# EAGLE library part M48T35 (library df4iah_memory)
5V, 256 Kbit (32 Kb x8) TIMEKEEPER® SRAM Source: http://www.st.com/stonline/books/pdf/docs/2611.pdf#search=%22M48T35%22
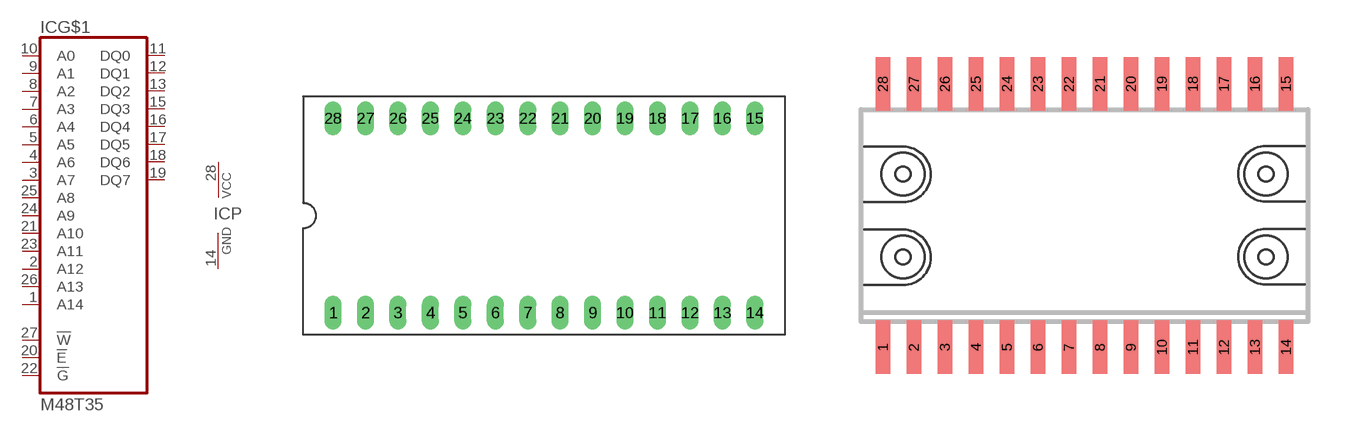
[diagram p65: symbol with the pads of PCDIP28-CAPHAT; footprints PCDIP28-CAPHAT, SOH28-SNAPHAT]

Designator prefix IC; gates G$1=M48T35 P=PWRN

## M48T35PC  [PCDIP28-CAPHAT]
1  G$1:A14  in
2  G$1:A12  in
3  G$1:A7  in
4  G$1:A6  in
5  G$1:A5  in
6  G$1:A4  in
7  G$1:A3  in
8  G$1:A2  in
9  G$1:A1  in
10  G$1:A0  in
11  G$1:DQ0
12  G$1:DQ1
13  G$1:DQ2
14  P:GND  pwr
15  G$1:DQ3
16  G$1:DQ4
17  G$1:DQ5
18  G$1:DQ6
19  G$1:DQ7
20  G$1:!E  in
21  G$1:A10  in
22  G$1:!G  in
23  G$1:A11  in
24  G$1:A9  in
25  G$1:A8  in
26  G$1:A13  in
27  G$1:!W  in
28  P:VCC  pwr

## M48T35MH  [SOH28-SNAPHAT]
Pads as for PCDIP28-CAPHAT

## Footprint PCDIP28-CAPHAT (pad centres in mm)
28-pin PCDIP, CAPHAT(TM) Package PCDIP28 (PC) Source: http://www.st.com/stonline/books/pdf/docs/2611.pdf#search=%22M48T35%22
drill 0.813 long: 1 -16.51,-7.62; 2 -13.97,-7.62; 3 -11.43,-7.62; 4 -8.89,-7.62; 5 -6.35,-7.62; 6 -3.81,-7.62; 7 -1.27,-7.62; 8 1.27,-7.62; 9 3.81,-7.62; 10 6.35,-7.62; 11 8.89,-7.62; 12 11.43,-7.62; 13 13.97,-7.62; 14 16.51,-7.62; 15 16.51,7.62; 16 13.97,7.62; 17 11.43,7.62; 18 8.89,7.62; 19 6.35,7.62; 20 3.81,7.62; 21 1.27,7.62; 22 -1.27,7.62; 23 -3.81,7.62; 24 -6.35,7.62; 25 -8.89,7.62; 26 -11.43,7.62; 27 -13.97,7.62; 28 -16.51,7.62

## Footprint SOH28-SNAPHAT (pad centres in mm)
28-pin SOH28 (MH) Source: http://www.st.com/stonline/books/pdf/docs/2611.pdf#search=%22M48T35%22
smd 0.6 x 2.2: 1 -8.255,-5.4; 2 -6.985,-5.4; 3 -5.715,-5.4; 4 -4.445,-5.4; 5 -3.175,-5.4; 6 -1.905,-5.4; 7 -0.635,-5.4; 8 0.635,-5.4; 9 1.905,-5.4; 10 3.175,-5.4; 11 4.445,-5.4; 12 5.715,-5.4; 13 6.985,-5.4; 14 8.255,-5.4; 15 8.255,5.4; 16 6.985,5.4; 17 5.715,5.4; 18 4.445,5.4; 19 3.175,5.4; 20 1.905,5.4; 21 0.635,5.4; 22 -0.635,5.4; 23 -1.905,5.4; 24 -3.175,5.4; 25 -4.445,5.4; 26 -5.715,5.4; 27 -6.985,5.4; 28 -8.255,5.4